# Altium schematic symbol library MAX3232.SchLib: 1 symbol
Pins are listed as number, name and electrical type; pins without a type are passive.

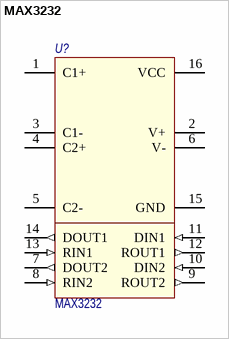
[diagram p0: symbol MAX3232]

## MAX3232
designator U?, comment Наименование: MAX3232  (hidden comment: RS232 Transceiver)
Multichannel RS-232 Line Driver and Receiver; Потребление, Вт: 0.01; Назначение: RS232 Transceiver
footprint TSSOP-16N (TSSOP, 16-Leads, Body 5,00x4,40mm, Pitch 0,65mm, IPC Medium Density)
pins: 1 C1+ (power), 2 V+ (power), 3 C1- (power), 4 C2+ (power), 5 C2- (power), 6 V- (power), 7 DOUT2 (out), 8 RIN2 (in), 9 ROUT2 (out), 10 DIN2 (in), 11 DIN1 (in), 12 ROUT1 (out), 13 RIN1 (in), 14 DOUT1 (out), 15 GND (power), 16 VCC (power)